# Altium schematic symbol library ANT-SMT-3.SchLib: 1 symbol
Pins are listed as number, name and electrical type; pins without a type are passive.

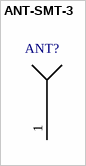
[diagram p0: symbol ANT-SMT-3]

## ANT-SMT-3
designator ANT?
pins: 1